# Altium schematic symbol library COIL.SchLib: 1 symbol
Pins are listed as number, name and electrical type; pins without a type are passive.

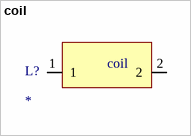
[diagram p0: symbol coil]

## coil
designator L?
footprint Coil
pins: 1 (power), 2 (power)